# Altium integrated library Altium_WPME-VDLM (rev23b).IntLib: 6 symbols
Pins are listed as number, name and electrical type; pins without a type are passive.

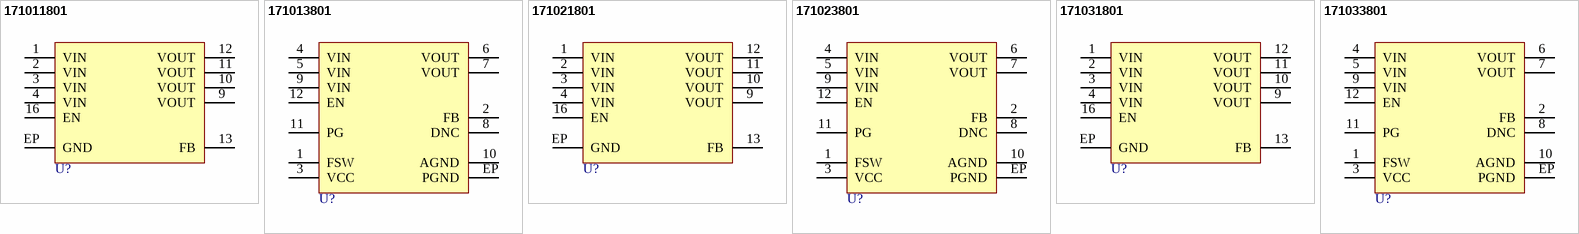
[diagram p0: symbols 171011801 to 171033801]

## 171011801
designator U?, comment 4-18Vin, 0.8-17Vout, 1Aout  (value not drawn)
WPME-VDLM Variable Step Down LGA Module, SMT, LGA-16EP, 4-18Vin, 0.8-17Vout, 1Aout; Manufacturer Part Number: 171011801; Manufacturer: Wurth Elektronik; Input Voltage Min: 4V; Input Voltage Max: 18V; Output Current: 1A; Output Voltage Min: 0.8V; Output Voltage Max: 17V; Category: Step Down Converter; Match Code: WPME-VDLM; ComponentLink1Description: Website Link; ComponentLink1URL: https://www.we-online.com/redexpert/article/171011801?ad; ComponentLink2Description: Datasheet Link; ComponentLink2URL: https://www.we-online.com/redexpert/spec/171011801?ad; Mount: Surface Mount; Operating Temperature Max: 125°C; Operating Temperature Min: -40°C; Packaging: Tape and Reel; Case/Size Code: LGA-16EP; Length: 9mm; Width: 9mm; Height: 2.96mm
footprint WPME-VDLM_LGA-16EP_L9W9H2.96
pins: 1 VIN, 2 VIN, 3 VIN, 4 VIN, 9 VOUT, 10 VOUT, 11 VOUT, 12 VOUT, 13 FB, 16 EN, EP GND

## 171013801
designator U?, comment 3.5-38Vin, 0.85-13Vout, 1Aout  (value not drawn)
WPME-VDLM Variable Step Down LGA Module, SMT, LGA-12EP, 3.5-38Vin, 0.85-13Vout, 1Aout; Manufacturer Part Number: 171013801; Manufacturer: Wurth Elektronik; Input Voltage Min: 3.5V; Input Voltage Max: 38V; Output Current: 1A; Output Voltage Min: 0.85V; Output Voltage Max: 13V; Category: Step Down Converter; Match Code: WPME-VDLM; ComponentLink1Description: Website Link; ComponentLink1URL: https://www.we-online.com/redexpert/article/171013801?ad; ComponentLink2Description: Datasheet Link; ComponentLink2URL: https://www.we-online.com/redexpert/spec/171013801?ad; Mount: Surface Mount; Operating Temperature Max: 125°C; Operating Temperature Min: -40°C; Packaging: Tape and Reel; Case/Size Code: LGA-12EP; Length: 10mm; Width: 6mm; Height: 3.1mm
footprint WPME-VDLM_LGA-12EP_L10W6H3.1
pins: 1 FSW, 2 FB, 3 VCC, 4 VIN, 5 VIN, 6 VOUT, 7 VOUT, 8 DNC, 9 VIN, 10 AGND, 11 PG, 12 EN, EP PGND

## 171021801
designator U?, comment 4-18Vin, 0.8-17Vout, 2Aout  (value not drawn)
WPME-VDLM Variable Step Down LGA Module, SMT, LGA-16EP, 4-18Vin, 0.8-17Vout, 2Aout; Manufacturer Part Number: 171021801; Manufacturer: Wurth Elektronik; Input Voltage Min: 4V; Input Voltage Max: 18V; Output Current: 2A; Output Voltage Min: 0.8V; Output Voltage Max: 17V; Category: Step Down Converter; Match Code: WPME-VDLM; ComponentLink1Description: Website Link; ComponentLink1URL: https://www.we-online.com/redexpert/article/171021801?ad; ComponentLink2Description: Datasheet Link; ComponentLink2URL: https://www.we-online.com/redexpert/spec/171021801?ad; Mount: Surface Mount; Operating Temperature Max: 125°C; Operating Temperature Min: -40°C; Packaging: Tape and Reel; Case/Size Code: LGA-16EP; Length: 9mm; Width: 9mm; Height: 2.96mm
footprint WPME-VDLM_LGA-16EP_L9W9H2.96
pins: 1 VIN, 2 VIN, 3 VIN, 4 VIN, 9 VOUT, 10 VOUT, 11 VOUT, 12 VOUT, 13 FB, 16 EN, EP GND

## 171023801
designator U?, comment 3.5-38Vin, 0.85-13Vout, 2Aout  (value not drawn)
WPME-VDLM Variable Step Down LGA Module, SMT, LGA-12EP, 3.5-38Vin, 0.85-13Vout, 2Aout; Manufacturer Part Number: 171023801; Manufacturer: Wurth Elektronik; Input Voltage Min: 3.5V; Input Voltage Max: 38V; Output Current: 2A; Output Voltage Min: 0.85V; Output Voltage Max: 13V; Category: Step Down Converter; Match Code: WPME-VDLM; ComponentLink1Description: Website Link; ComponentLink1URL: https://www.we-online.com/redexpert/article/171023801?ad; ComponentLink2Description: Datasheet Link; ComponentLink2URL: https://www.we-online.com/redexpert/spec/171023801?ad; Mount: Surface Mount; Operating Temperature Max: 125°C; Operating Temperature Min: -40°C; Packaging: Tape and Reel; Case/Size Code: LGA-12EP; Length: 10mm; Width: 6mm; Height: 3.1mm
footprint WPME-VDLM_LGA-12EP_L10W6H3.1
pins: 1 FSW, 2 FB, 3 VCC, 4 VIN, 5 VIN, 6 VOUT, 7 VOUT, 8 DNC, 9 VIN, 10 AGND, 11 PG, 12 EN, EP PGND

## 171031801
designator U?, comment 4-18Vin, 0.8-17Vout, 3Aout  (value not drawn)
WPME-VDLM Variable Step Down LGA Module, SMT, LGA-16EP, 4-18Vin, 0.8-17Vout, 3Aout; Manufacturer Part Number: 171031801; Manufacturer: Wurth Elektronik; Input Voltage Min: 4V; Input Voltage Max: 18V; Output Current: 3A; Output Voltage Min: 0.8V; Output Voltage Max: 17V; Category: Step Down Converter; Match Code: WPME-VDLM; ComponentLink1Description: Website Link; ComponentLink1URL: https://www.we-online.com/redexpert/article/171031801?ad; ComponentLink2Description: Datasheet Link; ComponentLink2URL: https://www.we-online.com/redexpert/spec/171031801?ad; Mount: Surface Mount; Operating Temperature Max: 125°C; Operating Temperature Min: -40°C; Packaging: Tape and Reel; Case/Size Code: LGA-16EP; Length: 9mm; Width: 9mm; Height: 2.96mm
footprint WPME-VDLM_LGA-16EP_L9W9H2.96
pins: 1 VIN, 2 VIN, 3 VIN, 4 VIN, 9 VOUT, 10 VOUT, 11 VOUT, 12 VOUT, 13 FB, 16 EN, EP GND

## 171033801
designator U?, comment 3.5-38Vin, 0.85-6Vout, 3Aout  (value not drawn)
WPME-VDLM Variable Step Down LGA Module, SMT, LGA-12EP, 3.5-38Vin, 0.85-6Vout, 3Aout; Manufacturer Part Number: 171033801; Manufacturer: Wurth Elektronik; Input Voltage Min: 3.5V; Input Voltage Max: 38V; Output Current: 3A; Output Voltage Min: 0.85V; Output Voltage Max: 6V; Category: Step Down Converter; Match Code: WPME-VDLM; ComponentLink1Description: Website Link; ComponentLink1URL: https://www.we-online.com/redexpert/article/171033801?ad; ComponentLink2Description: Datasheet Link; ComponentLink2URL: https://www.we-online.com/redexpert/spec/171033801?ad; Mount: Surface Mount; Operating Temperature Max: 125°C; Operating Temperature Min: -40°C; Packaging: Tape and Reel; Case/Size Code: LGA-12EP; Length: 10mm; Width: 6mm; Height: 3.1mm
footprint WPME-VDLM_LGA-12EP_L10W6H3.1
pins: 1 FSW, 2 FB, 3 VCC, 4 VIN, 5 VIN, 6 VOUT, 7 VOUT, 8 DNC, 9 VIN, 10 AGND, 11 PG, 12 EN, EP PGND